# Altium schematic symbol library SW-4PIN.SchLib: 1 symbol
Pins are listed as number, name and electrical type; pins without a type are passive.

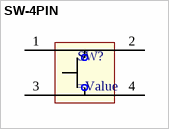
[diagram p0: symbol SW-4PIN]

## SW-4PIN
designator SW?
=Description
pins: 1, 2, 3 2, 4